# EAGLE library part MURATA_POWER_SUPPLY (library HyTechDevices)
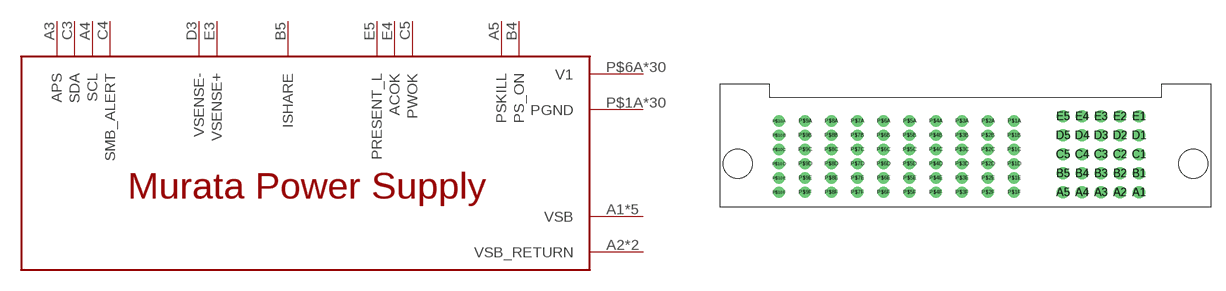
[diagram p89: symbol with the pads of MURATA_POWER_SUPPLY_CONNECTOR; footprint MURATA_POWER_SUPPLY_CONNECTOR]

Designator prefix -

## MURATA_POWER_SUPPLY  [MURATA_POWER_SUPPLY_CONNECTOR]
A1  VSB
A2  VSB_RETURN
A3  APS
A4  SCL
A5  PSKILL
B1  VSB
B2  VSB_RETURN
B4  PS_ON
B5  ISHARE
C1  VSB
C3  SDA
C4  SMB_ALERT
C5  PWOK
D1  VSB
D3  VSENSE-
E1  VSB
E3  VSENSE+
E4  ACOK
E5  PRESENT_L
P$1A  PGND
P$1B  PGND
P$1C  PGND
P$1D  PGND
P$1E  PGND
P$1F  PGND
P$2A  PGND
P$2B  PGND
P$2C  PGND
P$2D  PGND
P$2E  PGND
P$2F  PGND
P$3A  PGND
P$3B  PGND
P$3C  PGND
P$3D  PGND
P$3E  PGND
P$3F  PGND
P$4A  PGND
P$4B  PGND
P$4C  PGND
P$4D  PGND
P$4E  PGND
P$4F  PGND
P$5A  PGND
P$5B  PGND
P$5C  PGND
P$5D  PGND
P$5E  PGND
P$5F  PGND
P$6A  V1
P$6B  V1
P$6C  V1
P$6D  V1
P$6E  V1
P$6F  V1
P$7A  V1
P$7B  V1
P$7C  V1
P$7D  V1
P$7E  V1
P$7F  V1
P$8A  V1
P$8B  V1
P$8C  V1
P$8D  V1
P$8E  V1
P$8F  V1
P$9A  V1
P$9B  V1
P$9C  V1
P$9D  V1
P$9E  V1
P$9F  V1
P$10A  V1
P$10B  V1
P$10C  V1
P$10D  V1
P$10E  V1
P$10F  V1

## Footprint MURATA_POWER_SUPPLY_CONNECTOR (pad centres in mm)
drill 0.8: A1 44.145,1.5; A2 42.145,1.5; A3 40.145,1.5; A4 38.145,1.5; A5 36.145,1.5; B1 44.145,3.5; B2 42.145,3.5; B3 40.145,3.5; B4 38.145,3.5; B5 36.145,3.5; C1 44.145,5.5; C2 42.145,5.5; C3 40.145,5.5; C4 38.145,5.5; C5 36.145,5.5; D1 44.145,7.5; D2 42.145,7.5; D3 40.145,7.5; D4 38.145,7.5; D5 36.145,7.5; E1 44.145,9.5; E2 42.145,9.5; E3 40.145,9.5; E4 38.145,9.5; E5 36.145,9.5
drill 0.7: P$1A 30.995,9; P$1B 30.995,7.5; P$1C 30.995,6; P$1D 30.995,4.5; P$1E 30.995,3; P$1F 30.995,1.5; P$2A 28.245,9; P$2B 28.245,7.5; P$2C 28.245,6; P$2D 28.245,4.5; P$2E 28.245,3; P$2F 28.245,1.5; P$3A 25.495,9; P$3B 25.495,7.5; P$3C 25.495,6; P$3D 25.495,4.5; P$3E 25.495,3; P$3F 25.495,1.5; P$4A 22.745,9; P$4B 22.745,7.5; P$4C 22.745,6; P$4D 22.745,4.5; P$4E 22.745,3; P$4F 22.745,1.5; P$5A 19.995,9; P$5B 19.995,7.5; P$5C 19.995,6; P$5D 19.995,4.5; P$5E 19.995,3; P$5F 19.995,1.5; P$6A 17.245,9; P$6B 17.245,7.5; P$6C 17.245,6; P$6D 17.245,4.5; P$6E 17.245,3; P$6F 17.245,1.5; P$7A 14.495,9; P$7B 14.495,7.5; P$7C 14.495,6; P$7D 14.495,4.5; P$7E 14.495,3; P$7F 14.495,1.5; P$8A 11.745,9; P$8B 11.745,7.5; P$8C 11.745,6; P$8D 11.745,4.5; P$8E 11.745,3; P$8F 11.745,1.5; P$9A 8.995,9; P$9B 8.995,7.5; P$9C 8.995,6; P$9D 8.995,4.5; P$9E 8.995,3; P$9F 8.995,1.5; P$10A 6.245,9; P$10B 6.245,7.5; P$10C 6.245,6; P$10D 6.245,4.5; P$10E 6.245,3; P$10F 6.245,1.5
hole 3.05 at 1.9,4.5
hole 3.05 at 49.84,4.5